# Altium schematic symbol library Mylib.SchLib: 10 symbols
Pins are listed as number, name and electrical type; pins without a type are passive.

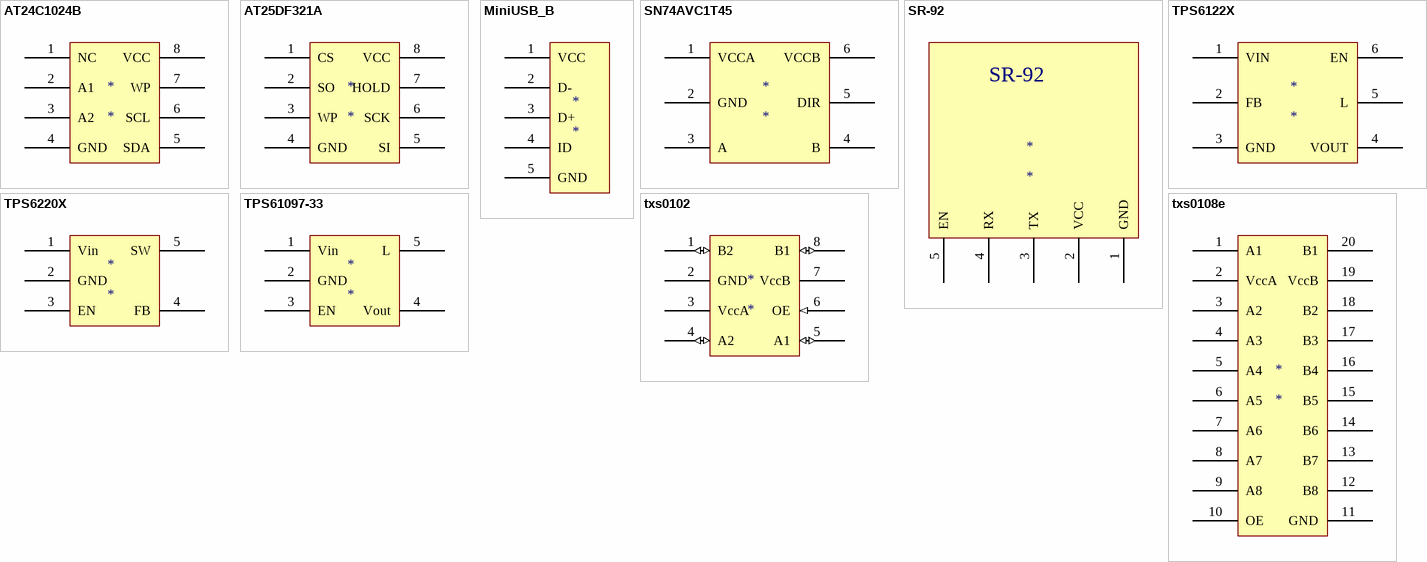
[diagram p0: symbols AT24C1024B to txs0108e]

## AT24C1024B
designator *
footprint 8S2_M (8-Pin Small Outline Package 1.27 mm Pitch, IPC Low Density)
pins: 1 NC, 2 A1, 3 A2, 4 GND, 5 SDA, 6 SCL, 7 WP, 8 VCC

## AT25DF321A
designator *
footprint 8S2_M (Footprint not found)
footprint 8S2_N (8-Pin Small Outline Package 1.27 mm Pitch, IPC Medium Density)
pins: 1 CS, 2 SO, 3 WP, 4 GND, 5 SI, 6 SCK, 7 HOLD, 8 VCC

## MiniUSB_B
designator *
footprint USBfoot2
pins: 1 VCC, 2 D-, 3 D+, 4 ID, 5 GND

## SN74AVC1T45
designator *
footprint DBV006 (SOT-23/SC-74A; 6 Leads; Body 3 x 3 mm, inc. leads (LxW max))
pins: 1 VCCA, 2 GND, 3 A, 4 B, 5 DIR, 6 VCCB

## SR-92
designator *
footprint SR-92 (GPS module SR-92)
pins: 1 GND, 2 VCC, 3 TX, 4 RX, 5 EN

## TPS6122X
designator *
pins: 1 VIN, 2 FB, 3 GND, 4 VOUT, 5 L, 6 EN

## TPS6220X
designator *
footprint DBV005 (SOT-23/SC-74A; 5 Leads; Body 3 x 3 mm, inc. leads (LxW max))
pins: 1 Vin, 2 GND, 3 EN, 4 FB, 5 SW

## TPS61097-33
designator *
footprint DBV005 (SOT-23/SC-74A; 5 Leads; Body 3 x 3 mm, inc. leads (LxW max))
pins: 1 Vin, 2 GND, 3 EN, 4 Vout, 5 L

## txs0102
designator *
pins: 1 B2 (io), 2 GND (power), 3 VccA (power), 4 A2 (io), 5 A1 (io), 6 OE (in), 7 VccB (power), 8 B1 (io)

## txs0108e
designator *
footprint PW020 (Shrink Small Outline; 20 Leads; Body Width 4.4 mm; Pitch 0.65 mm)
pins: 1 A1, 2 VccA, 3 A2, 4 A3, 5 A4, 6 A5, 7 A6, 8 A7, 9 A8, 10 OE, 11 GND, 12 B8, 13 B7, 14 B6, 15 B5, 16 B4, 17 B3, 18 B2, 19 VccB, 20 B1